# Altium footprint library PCB - CAPACITOR - MLCC - TDK CKG57N.PCBLIB: 1 footprints
Each footprint in its own frame and in the unit in brackets; x right, y up, seen from the top. Pads: shape width x height; smd on the part's side, far side on the other; paste and mask are expansions set on the pad; w line width, h text height; cw(c..) or ccw(c..) is an arc to the next point about the centre after c.
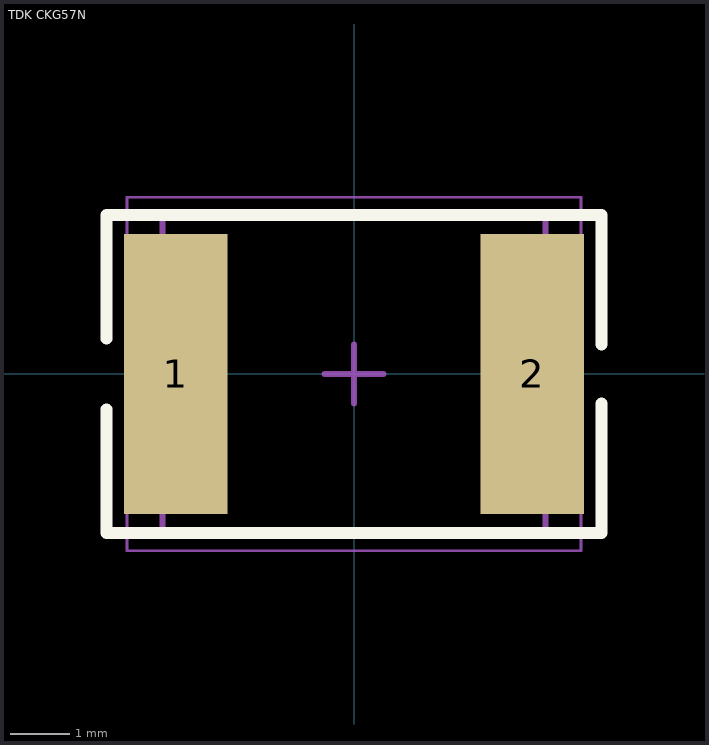
[diagram p0: the footprint, top view; thin cyan lines are the x and y axes]

## TDK CKG57N [mm] "Chip Capacitor, 2-Leads, Body 6.00x5.00mm, IPC Medium Density"
height 3.5
pads (2):
  rect 1.75x4.75 smd: 1(-3.025,0) 2(3.025,0)
Top Overlay:
  lines w0.2: -4.2,-0.6 -4.2,-2.7 4.2,-2.7 4.2,-0.5 ; -4.2,0.6 -4.2,2.7 4.2,2.7 4.2,0.5
Mechanical 13:
  lines w0.1: -3.25,-2.75 -3.25,2.75 3.25,2.75 3.25,-2.75 -3.25,-2.75
Mechanical 15:
  lines w0.05: -3.85,-3 -3.85,3 3.85,3 3.85,-3 -3.85,-3
  lines w0.1: -0.5,0 0.5,0 ; 0,-0.5 0,0.5
3D body "TDK CKG57N.step": height 3.5, standoff 0, extent -3,-2.5 3,2.5